# Altium schematic symbol library Detectors.SchLib: 109 symbols (part 1 of 5)
Pins are listed as number, name and electrical type; pins without a type are passive.

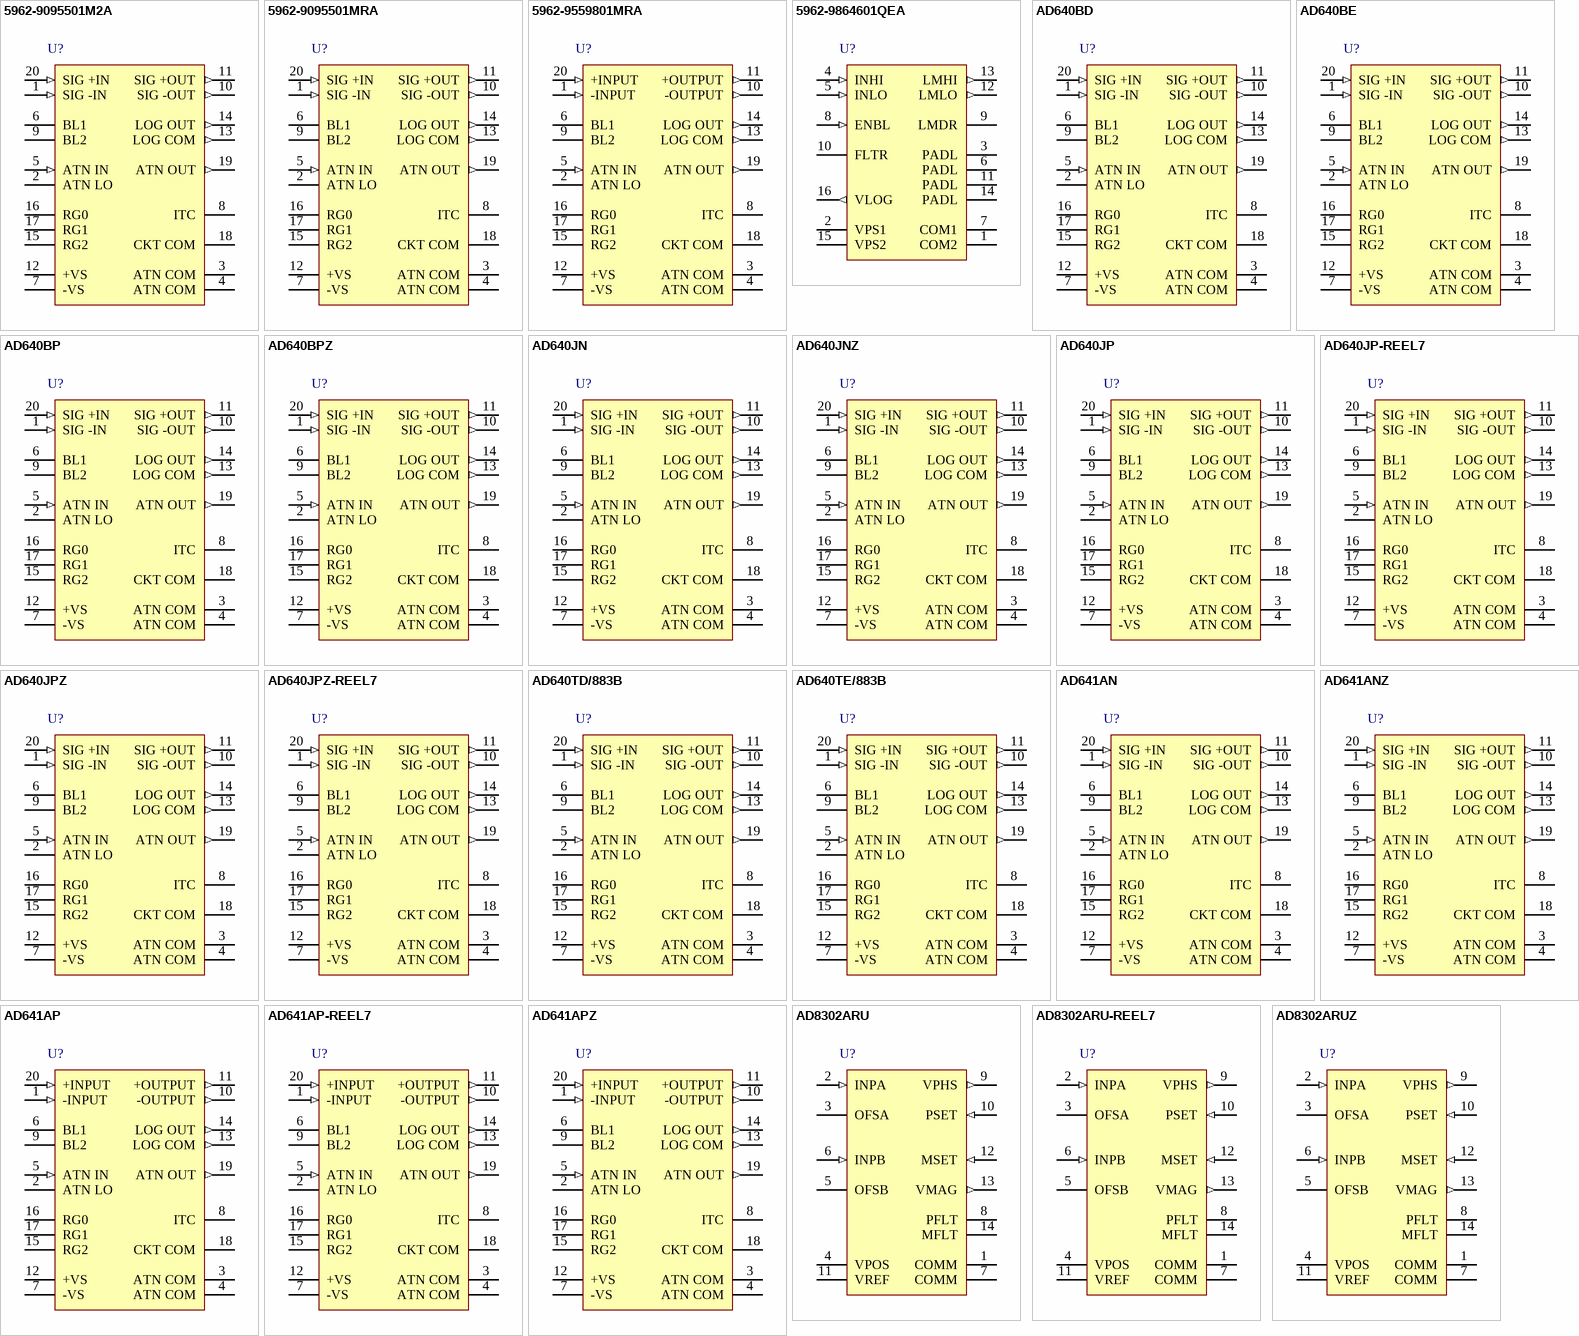
[diagram p0: symbols 5962-9095501M2A to AD8302ARUZ]

## 5962-9095501M2A
designator U?
DC-Coupled Demodulating 120 MHz Logarithmic Amplifier, 10ns Response Time, E-20-1, 54 Tube; Product Description: Military Specified Part Available; Dynamic Range (dB): 50dB; Temp Stability (dB): 1dB; Voltage Supply (V): +/- 4.5 to +/- 7.5; Supply Current: 44mA; DatasheetVersion: REV. C; PackageVersion: 022106-A; PackageReference: E-20-1; PackageDescription: 20-Terminal Ceramic Leadless Chip Carrier [LCC]; Response Time (ns typ): 10ns; ComponentLink1Description: Manufacturer URL; ComponentLink1URL: www.analog.com; ComponentLink2Description: Datasheet; ComponentLink2URL: http://www.analog.com/static/imported-files/data_sheets/AD640.pdf; ComponentLink3Description: Package Specification; ComponentLink3URL: http://www.analog.com/static/imported-files/packages/PKG_PDF/LCC(E)/E_20_1.pdf
footprint ADI-E-20-1_N (Leadless Chip Carrier, 20-Leads, Body 8.9x8.9mm, Pitch 1.27mm, IPC Medium Density)
footprint ADI-E-20-1_L (Leadless Chip Carrier, 20-Leads, Body 8.9x8.9mm, Pitch 1.27mm, IPC High Density)
footprint ADI-E-20-1_M (Leadless Chip Carrier, 20-Leads, Body 8.9x8.9mm, Pitch 1.27mm, IPC Low Density)
pins: 1 SIG -IN (in) "SIGNAL INPUTS", 2 ATN LO "INPUT ATTENUATOR", 3 ATN COM (power) "INPUT ATTENUATOR", 4 ATN COM (power) "INPUT ATTENUATOR", 5 ATN IN (in) "INPUT ATTENUATOR", 6 BL1 "bias lines", 7 -VS (power) "POWER REQUIREMENTS", 8 ITC "internal temperature compensation", 9 BL2 "bias lines", 10 SIG -OUT (out) "SIGNAL OUTPUT", 11 SIG +OUT (out) "SIGNAL OUTPUT", 12 +VS (power) "POWER REQUIREMENTS", 13 LOG COM (out), 14 LOG OUT (out) "LOGARITHMIC OUTPUT", 15 RG2 "APPLICATIONS RESISTORS", 16 RG0 "APPLICATIONS RESISTORS", 17 RG1 "APPLICATIONS RESISTORS", 18 CKT COM, 19 ATN OUT (out) "INPUT ATTENUATOR", 20 SIG +IN (in) "SIGNAL INPUTS"

## 5962-9095501MRA
designator U?
DC-Coupled Demodulating 120 MHz Logarithmic Amplifier, 10ns Response Time, D-20, 19 Tube; Product Description: Military Specified Part Available; Dynamic Range (dB): 50dB; Temp Stability (dB): 1dB; Voltage Supply (V): +/- 4.5 to +/- 7.5; Supply Current: 44mA; DatasheetVersion: REV. C; PackageVersion: Oct-2004; PackageReference: D-20; PackageDescription: 20-Lead Side-Brazed Ceramic Dual In-Line Package [SBDIP]; Response Time (ns typ): 10ns; ComponentLink1Description: Manufacturer URL; ComponentLink1URL: www.analog.com; ComponentLink2Description: Datasheet; ComponentLink2URL: http://www.analog.com/static/imported-files/data_sheets/AD640.pdf; ComponentLink3Description: Package Specification; ComponentLink3URL: http://www.analog.com/static/imported-files/packages/31639175472309D_20.pdf
footprint ADI-D-20 (DIP, 20-Leads, Row Spacing 7.62mm, Pitch 2.54mm, Body 27x7.4mm)
pins: 1 SIG -IN (in) "SIGNAL INPUTS", 2 ATN LO "INPUT ATTENUATOR", 3 ATN COM (power) "INPUT ATTENUATOR", 4 ATN COM (power) "INPUT ATTENUATOR", 5 ATN IN (in) "INPUT ATTENUATOR", 6 BL1 "bias lines", 7 -VS (power) "POWER REQUIREMENTS", 8 ITC "internal temperature compensation", 9 BL2 "bias lines", 10 SIG -OUT (out) "SIGNAL OUTPUT", 11 SIG +OUT (out) "SIGNAL OUTPUT", 12 +VS (power) "POWER REQUIREMENTS", 13 LOG COM (out), 14 LOG OUT (out) "LOGARITHMIC OUTPUT", 15 RG2 "APPLICATIONS RESISTORS", 16 RG0 "APPLICATIONS RESISTORS", 17 RG1 "APPLICATIONS RESISTORS", 18 CKT COM, 19 ATN OUT (out) "INPUT ATTENUATOR", 20 SIG +IN (in) "SIGNAL INPUTS"

## 5962-9559801MRA
designator U?
250 MHz, 44 dB Demodulating Logarithmic Amplifier, 10ns Response Time, Q-20, 18 Tube; Product Description: Military Specified Part Available; Dynamic Range (dB): 44dB; Temp Stability (dB): 1dB; Voltage Supply (V): +/- 4.5 to +/- 7.5; Supply Current: 44mA; DatasheetVersion: Rev. C; PackageVersion: Dec-2004; PackageReference: Q-20; PackageDescription: 20-Lead Ceramic Dual In-Line Package [CERDIP]; Response Time (ns typ): 10ns; ComponentLink1Description: Manufacturer URL; ComponentLink1URL: www.analog.com; ComponentLink2Description: Datasheet; ComponentLink2URL: http://www.analog.com/static/imported-files/data_sheets/AD641.pdf; ComponentLink3Description: Package Specification; ComponentLink3URL: http://www.analog.com/static/imported-files/packages/50516416473314Q_20.pdf
footprint ADI-Q-20 (DIP, 20-Leads, Row Spacing 7.62mm, Pitch 2.54mm, Body 25.9x6.7mm)
pins: 1 -INPUT (in), 2 ATN LO, 3 ATN COM (power), 4 ATN COM (power), 5 ATN IN (in), 6 BL1, 7 -VS (power), 8 ITC, 9 BL2, 10 -OUTPUT (out), 11 +OUTPUT (out), 12 +VS (power), 13 LOG COM (out), 14 LOG OUT (out), 15 RG2, 16 RG0, 17 RG1, 18 CKT COM, 19 ATN OUT (out), 20 +INPUT (in)

## 5962-9864601QEA
designator U?
5 MHz-400 MHz 100 dB High Precision Limiting-Logarithmic Amplifier, 73ns Response Time, D-16, 23 Tube; Product Description: Military Specified Part Available; RF Frequency (MHz): 5 to 400; Dynamic Range (dB): 100dB; Temp Stability (dB): 1dB; Voltage Supply (V): 2.7 to 5.5; Supply Current: 16mA; DatasheetVersion: Rev.A; PackageVersion: Oct-2004; PackageReference: D-16; PackageDescription: 16-Lead Side-Brazed Ceramic Dual In-Line Package [SBDIP]; Response Time (ns typ): 73ns; ComponentLink1Description: Manufacturer URL; ComponentLink1URL: www.analog.com; ComponentLink2Description: Datasheet; ComponentLink2URL: http://www.analog.com/static/imported-files/data_sheets/AD8306.pdf; ComponentLink3Description: Package Specification; ComponentLink3URL: http://www.analog.com/static/imported-files/packages/411773807540737148809448D_16.pdf
footprint ADI-D-16 (DIP, 16-Leads, Row Spacing 7.62mm, Pitch 2.54mm, Body 21.3x6.7mm)
pins: 1 COM2 (power) "Special Common Pin for RSSI Output.", 2 VPS1 (power) "Supply Pin for First Five Amplifier Stages and the Main Biasing System.", 3 PADL (power) "Four Tie-Downs to the Paddle on which the IC Is Mounted; Grounded.", 4 INHI (in) "Signal Input, HI or Plus Polarity.", 5 INLO (in) "Signal Input, LO or Minus Polarity.", 6 PADL (power) "Four Tie-Downs to the Paddle on which the IC Is Mounted; Grounded.", 7 COM1 (power) "Main Common Connection.", 8 ENBL (in) "Chip Enable; Active When HI.", 9 LMDR "Limiter Drive Programming Pin.", 10 FLTR "RSSI Bandwidth-Reduction Pin.", 11 PADL (power) "Four Tie-Downs to the Paddle on which the IC Is Mounted; Grounded.", 12 LMLO (out) "Limiter Output, LO or Minus Polarity.", 13 LMHI (out) "Limiter Output, HI or Plus Polarity.", 14 PADL (power) "Four Tie-Downs to the Paddle on which the IC Is Mounted; Grounded.", 15 VPS2 (power) "Supply Pin for Sixth Gain Stage, Limiter and RSSI Output Stage Load Current.", 16 VLOG (out) "Logarithmic (RSSI) Output."

## AD640BD
designator U?
DC-Coupled Demodulating 120 MHz Logarithmic Amplifier, 10ns Response Time, D-20, 19 Tube; Product Description: Military Specified Part Available; Dynamic Range (dB): 50dB; Temp Stability (dB): 1dB; Voltage Supply (V): +/- 4.5 to +/- 7.5; Supply Current: 44mA; DatasheetVersion: REV. C; PackageVersion: Oct-2004; PackageReference: D-20; PackageDescription: 20-Lead Side-Brazed Ceramic Dual In-Line Package [SBDIP]; Response Time (ns typ): 10ns; ComponentLink1Description: Manufacturer URL; ComponentLink1URL: www.analog.com; ComponentLink2Description: Datasheet; ComponentLink2URL: http://www.analog.com/static/imported-files/data_sheets/AD640.pdf; ComponentLink3Description: Package Specification; ComponentLink3URL: http://www.analog.com/static/imported-files/packages/31639175472309D_20.pdf
footprint ADI-D-20 (DIP, 20-Leads, Row Spacing 7.62mm, Pitch 2.54mm, Body 27x7.4mm)
pins: 1 SIG -IN (in) "SIGNAL INPUTS", 2 ATN LO "INPUT ATTENUATOR", 3 ATN COM (power) "INPUT ATTENUATOR", 4 ATN COM (power) "INPUT ATTENUATOR", 5 ATN IN (in) "INPUT ATTENUATOR", 6 BL1 "bias lines", 7 -VS (power) "POWER REQUIREMENTS", 8 ITC "internal temperature compensation", 9 BL2 "bias lines", 10 SIG -OUT (out) "SIGNAL OUTPUT", 11 SIG +OUT (out) "SIGNAL OUTPUT", 12 +VS (power) "POWER REQUIREMENTS", 13 LOG COM (out), 14 LOG OUT (out) "LOGARITHMIC OUTPUT", 15 RG2 "APPLICATIONS RESISTORS", 16 RG0 "APPLICATIONS RESISTORS", 17 RG1 "APPLICATIONS RESISTORS", 18 CKT COM, 19 ATN OUT (out) "INPUT ATTENUATOR", 20 SIG +IN (in) "SIGNAL INPUTS"

## AD640BE
designator U?
DC-Coupled Demodulating 120 MHz Logarithmic Amplifier, 10ns Response Time, E-20-1, Pb-Free, 54 Tube; Product Description: Military Specified Part Available; Dynamic Range (dB): 50dB; Temp Stability (dB): 1dB; Voltage Supply (V): +/- 4.5 to +/- 7.5; Supply Current: 44mA; DatasheetVersion: REV. C; PackageVersion: 022106-A; PackageReference: E-20-1; PackageDescription: 20-Terminal Ceramic Leadless Chip Carrier [LCC]; Response Time (ns typ): 10ns; ComponentLink1Description: Manufacturer URL; ComponentLink1URL: www.analog.com; ComponentLink2Description: Datasheet; ComponentLink2URL: http://www.analog.com/static/imported-files/data_sheets/AD640.pdf; ComponentLink3Description: Package Specification; ComponentLink3URL: http://www.analog.com/static/imported-files/packages/PKG_PDF/LCC(E)/E_20_1.pdf
footprint ADI-E-20-1_N (Leadless Chip Carrier, 20-Leads, Body 8.9x8.9mm, Pitch 1.27mm, IPC Medium Density)
footprint ADI-E-20-1_L (Leadless Chip Carrier, 20-Leads, Body 8.9x8.9mm, Pitch 1.27mm, IPC High Density)
footprint ADI-E-20-1_M (Leadless Chip Carrier, 20-Leads, Body 8.9x8.9mm, Pitch 1.27mm, IPC Low Density)
pins: 1 SIG -IN (in) "SIGNAL INPUTS", 2 ATN LO "INPUT ATTENUATOR", 3 ATN COM (power) "INPUT ATTENUATOR", 4 ATN COM (power) "INPUT ATTENUATOR", 5 ATN IN (in) "INPUT ATTENUATOR", 6 BL1 "bias lines", 7 -VS (power) "POWER REQUIREMENTS", 8 ITC "internal temperature compensation", 9 BL2 "bias lines", 10 SIG -OUT (out) "SIGNAL OUTPUT", 11 SIG +OUT (out) "SIGNAL OUTPUT", 12 +VS (power) "POWER REQUIREMENTS", 13 LOG COM (out), 14 LOG OUT (out) "LOGARITHMIC OUTPUT", 15 RG2 "APPLICATIONS RESISTORS", 16 RG0 "APPLICATIONS RESISTORS", 17 RG1 "APPLICATIONS RESISTORS", 18 CKT COM, 19 ATN OUT (out) "INPUT ATTENUATOR", 20 SIG +IN (in) "SIGNAL INPUTS"

## AD640BP
designator U?
DC-Coupled Demodulating 120 MHz Logarithmic Amplifier, 10ns Response Time, P-20A, 49 Tube; Product Description: Military Specified Part Available; Dynamic Range (dB): 50dB; Temp Stability (dB): 1dB; Voltage Supply (V): +/- 4.5 to +/- 7.5; Supply Current: 44mA; DatasheetVersion: REV. C; PackageVersion: Nov-2002; PackageReference: P-20A; PackageDescription: 20-Lead Plastic Leaded Chip Carrier [PLCC]; Response Time (ns typ): 10ns; Code_JEDEC: MO-047AA; ComponentLink1Description: Manufacturer URL; ComponentLink1URL: www.analog.com; ComponentLink2Description: Datasheet; ComponentLink2URL: http://www.analog.com/static/imported-files/data_sheets/AD640.pdf; ComponentLink3Description: Package Specification; ComponentLink3URL: http://www.analog.com/static/imported-files/packages/3121431516544404277643669223804694P20A.pdf
footprint ADI-P-20A_N (Leaded Chip Carrier, 20-Leads, Body 9x9mm, Pitch 1.27mm, IPC Medium Density)
footprint ADI-P-20A_L (Leaded Chip Carrier, 20-Leads, Body 9x9mm, Pitch 1.27mm, IPC High Density)
footprint ADI-P-20A_M (Leaded Chip Carrier, 20-Leads, Body 9x9mm, Pitch 1.27mm, IPC Low Density)
pins: 1 SIG -IN (in) "SIGNAL INPUTS", 2 ATN LO "INPUT ATTENUATOR", 3 ATN COM (power) "INPUT ATTENUATOR", 4 ATN COM (power) "INPUT ATTENUATOR", 5 ATN IN (in) "INPUT ATTENUATOR", 6 BL1 "bias lines", 7 -VS (power) "POWER REQUIREMENTS", 8 ITC "internal temperature compensation", 9 BL2 "bias lines", 10 SIG -OUT (out) "SIGNAL OUTPUT", 11 SIG +OUT (out) "SIGNAL OUTPUT", 12 +VS (power) "POWER REQUIREMENTS", 13 LOG COM (out), 14 LOG OUT (out) "LOGARITHMIC OUTPUT", 15 RG2 "APPLICATIONS RESISTORS", 16 RG0 "APPLICATIONS RESISTORS", 17 RG1 "APPLICATIONS RESISTORS", 18 CKT COM, 19 ATN OUT (out) "INPUT ATTENUATOR", 20 SIG +IN (in) "SIGNAL INPUTS"

## AD640BPZ
designator U?
DC-Coupled Demodulating 120 MHz Logarithmic Amplifier, 10ns Response Time, P-20A, Pb-Free, 49 Tube; Product Description: Military Specified Part Available; Dynamic Range (dB): 50dB; Temp Stability (dB): 1dB; Voltage Supply (V): +/- 4.5 to +/- 7.5; Supply Current: 44mA; DatasheetVersion: REV. C; PackageVersion: Nov-2002; PackageReference: P-20A; PackageDescription: 20-Lead Plastic Leaded Chip Carrier [PLCC]; Response Time (ns typ): 10ns; Code_JEDEC: MO-047AA; ComponentLink1Description: Manufacturer URL; ComponentLink1URL: www.analog.com; ComponentLink2Description: Datasheet; ComponentLink2URL: http://www.analog.com/static/imported-files/data_sheets/AD640.pdf; ComponentLink3Description: Package Specification; ComponentLink3URL: http://www.analog.com/static/imported-files/packages/3121431516544404277643669223804694P20A.pdf
footprint ADI-P-20A_N (Leaded Chip Carrier, 20-Leads, Body 9x9mm, Pitch 1.27mm, IPC Medium Density)
footprint ADI-P-20A_L (Leaded Chip Carrier, 20-Leads, Body 9x9mm, Pitch 1.27mm, IPC High Density)
footprint ADI-P-20A_M (Leaded Chip Carrier, 20-Leads, Body 9x9mm, Pitch 1.27mm, IPC Low Density)
pins: 1 SIG -IN (in) "SIGNAL INPUTS", 2 ATN LO "INPUT ATTENUATOR", 3 ATN COM (power) "INPUT ATTENUATOR", 4 ATN COM (power) "INPUT ATTENUATOR", 5 ATN IN (in) "INPUT ATTENUATOR", 6 BL1 "bias lines", 7 -VS (power) "POWER REQUIREMENTS", 8 ITC "internal temperature compensation", 9 BL2 "bias lines", 10 SIG -OUT (out) "SIGNAL OUTPUT", 11 SIG +OUT (out) "SIGNAL OUTPUT", 12 +VS (power) "POWER REQUIREMENTS", 13 LOG COM (out), 14 LOG OUT (out) "LOGARITHMIC OUTPUT", 15 RG2 "APPLICATIONS RESISTORS", 16 RG0 "APPLICATIONS RESISTORS", 17 RG1 "APPLICATIONS RESISTORS", 18 CKT COM, 19 ATN OUT (out) "INPUT ATTENUATOR", 20 SIG +IN (in) "SIGNAL INPUTS"

## AD640JN
designator U?
DC-Coupled Demodulating 120 MHz Logarithmic Amplifier, 10ns Response Time, N-20, 18 Tube; Product Description: Military Specified Part Available; Dynamic Range (dB): 50dB; Temp Stability (dB): 1dB; Voltage Supply (V): +/- 4.5 to +/- 7.5; Supply Current: 44mA; DatasheetVersion: REV. C; PackageVersion: 070706-A; PackageReference: N-20; PackageDescription: 20-Lead Plastic Dual In-Line Package [PDIP]; Response Time (ns typ): 10ns; Code_JEDEC: MS-001; ComponentLink1Description: Manufacturer URL; ComponentLink1URL: www.analog.com; ComponentLink2Description: Datasheet; ComponentLink2URL: http://www.analog.com/static/imported-files/data_sheets/AD640.pdf; ComponentLink3Description: Package Specification; ComponentLink3URL: http://www.analog.com/static/imported-files/packages/50601349676519N_20.pdf
footprint ADI-N-20 (DIP, 20-Leads, Row Spacing 7.62mm, Pitch 2.54mm, Body 25.9x6.6mm)
pins: 1 SIG -IN (in) "SIGNAL INPUTS", 2 ATN LO  "INPUT ATTENUATOR", 3 ATN COM (power) "INPUT ATTENUATOR", 4 ATN COM (power) "INPUT ATTENUATOR", 5 ATN IN (in) "INPUT ATTENUATOR", 6 BL1 "internal biaslines a volt or two above the 朧S node", 7 -VS (power) "POWER REQUIREMENTS", 8 ITC "internal temperature compensation", 9 BL2 "internal biaslines a volt or two above the 朧S node", 10 SIG -OUT (out) "SIGNAL OUTPUT", 11 SIG +OUT (out) "SIGNAL OUTPUT", 12 +VS (power) "POWER REQUIREMENTS", 13 LOG COM (out) "the complement of LOG OUT", 14 LOG OUT (out) "LOGARITHMIC OUTPUT", 15 RG2 "APPLICATIONS RESISTORS", 16 RG0 "APPLICATIONS RESISTORS", 17 RG1 "APPLICATIONS RESISTORS", 18 CKT COM, 19 ATN OUT (out) "INPUT ATTENUATOR", 20 SIG +IN (in) "SIGNAL INPUTS"

## AD640JNZ
designator U?
DC-Coupled Demodulating 120 MHz Logarithmic Amplifier, 10ns Response Time, N-20, Pb-Free, 18 Tube; Product Description: Military Specified Part Available; Dynamic Range (dB): 50dB; Temp Stability (dB): 1dB; Voltage Supply (V): +/- 4.5 to +/- 7.5; Supply Current: 44mA; DatasheetVersion: REV. C; PackageVersion: 070706-A; PackageReference: N-20; PackageDescription: 20-Lead Plastic Dual In-Line Package [PDIP]; Response Time (ns typ): 10ns; Code_JEDEC: MS-001; ComponentLink1Description: Manufacturer URL; ComponentLink1URL: www.analog.com; ComponentLink2Description: Datasheet; ComponentLink2URL: http://www.analog.com/static/imported-files/data_sheets/AD640.pdf; ComponentLink3Description: Package Specification; ComponentLink3URL: http://www.analog.com/static/imported-files/packages/50601349676519N_20.pdf
footprint ADI-N-20 (DIP, 20-Leads, Row Spacing 7.62mm, Pitch 2.54mm, Body 25.9x6.6mm)
pins: 1 SIG -IN (in) "SIGNAL INPUTS", 2 ATN LO  "INPUT ATTENUATOR", 3 ATN COM (power) "INPUT ATTENUATOR", 4 ATN COM (power) "INPUT ATTENUATOR", 5 ATN IN (in) "INPUT ATTENUATOR", 6 BL1 "internal biaslines a volt or two above the 朧S node", 7 -VS (power) "POWER REQUIREMENTS", 8 ITC "internal temperature compensation", 9 BL2 "internal biaslines a volt or two above the 朧S node", 10 SIG -OUT (out) "SIGNAL OUTPUT", 11 SIG +OUT (out) "SIGNAL OUTPUT", 12 +VS (power) "POWER REQUIREMENTS", 13 LOG COM (out) "the complement of LOG OUT", 14 LOG OUT (out) "LOGARITHMIC OUTPUT", 15 RG2 "APPLICATIONS RESISTORS", 16 RG0 "APPLICATIONS RESISTORS", 17 RG1 "APPLICATIONS RESISTORS", 18 CKT COM, 19 ATN OUT (out) "INPUT ATTENUATOR", 20 SIG +IN (in) "SIGNAL INPUTS"

## AD640JP
designator U?
DC-Coupled Demodulating 120 MHz Logarithmic Amplifier, 10ns Response Time, P-20A, 49 Tube; Product Description: Military Specified Part Available; Dynamic Range (dB): 50dB; Temp Stability (dB): 1dB; Voltage Supply (V): +/- 4.5 to +/- 7.5; Supply Current: 44mA; DatasheetVersion: REV. C; PackageVersion: Nov-2002; PackageReference: P-20A; PackageDescription: 20-Lead Plastic Leaded Chip Carrier [PLCC]; Response Time (ns typ): 10ns; Code_JEDEC: MO-047AA; ComponentLink1Description: Manufacturer URL; ComponentLink1URL: www.analog.com; ComponentLink2Description: Datasheet; ComponentLink2URL: http://www.analog.com/static/imported-files/data_sheets/AD640.pdf; ComponentLink3Description: Package Specification; ComponentLink3URL: http://www.analog.com/static/imported-files/packages/3121431516544404277643669223804694P20A.pdf
footprint ADI-P-20A_N (Leaded Chip Carrier, 20-Leads, Body 9x9mm, Pitch 1.27mm, IPC Medium Density)
footprint ADI-P-20A_L (Leaded Chip Carrier, 20-Leads, Body 9x9mm, Pitch 1.27mm, IPC High Density)
footprint ADI-P-20A_M (Leaded Chip Carrier, 20-Leads, Body 9x9mm, Pitch 1.27mm, IPC Low Density)
pins: 1 SIG -IN (in) "SIGNAL INPUTS", 2 ATN LO "INPUT ATTENUATOR", 3 ATN COM (power) "INPUT ATTENUATOR", 4 ATN COM (power) "INPUT ATTENUATOR", 5 ATN IN (in) "INPUT ATTENUATOR", 6 BL1 "bias lines", 7 -VS (power) "POWER REQUIREMENTS", 8 ITC "internal temperature compensation", 9 BL2 "bias lines", 10 SIG -OUT (out) "SIGNAL OUTPUT", 11 SIG +OUT (out) "SIGNAL OUTPUT", 12 +VS (power) "POWER REQUIREMENTS", 13 LOG COM (out), 14 LOG OUT (out) "LOGARITHMIC OUTPUT", 15 RG2 "APPLICATIONS RESISTORS", 16 RG0 "APPLICATIONS RESISTORS", 17 RG1 "APPLICATIONS RESISTORS", 18 CKT COM, 19 ATN OUT (out) "INPUT ATTENUATOR", 20 SIG +IN (in) "SIGNAL INPUTS"

## AD640JP-REEL7
designator U?
DC-Coupled Demodulating 120 MHz Logarithmic Amplifier, 10ns Response Time, P-20A, 250 Reel; Product Description: Military Specified Part Available; Dynamic Range (dB): 50dB; Temp Stability (dB): 1dB; Voltage Supply (V): +/- 4.5 to +/- 7.5; Supply Current: 44mA; DatasheetVersion: REV. C; PackageVersion: Nov-2002; PackageReference: P-20A; PackageDescription: 20-Lead Plastic Leaded Chip Carrier [PLCC]; Response Time (ns typ): 10ns; Code_JEDEC: MO-047AA; ComponentLink1Description: Manufacturer URL; ComponentLink1URL: www.analog.com; ComponentLink2Description: Datasheet; ComponentLink2URL: http://www.analog.com/static/imported-files/data_sheets/AD640.pdf; ComponentLink3Description: Package Specification; ComponentLink3URL: http://www.analog.com/static/imported-files/packages/3121431516544404277643669223804694P20A.pdf
footprint ADI-P-20A_N (Leaded Chip Carrier, 20-Leads, Body 9x9mm, Pitch 1.27mm, IPC Medium Density)
footprint ADI-P-20A_L (Leaded Chip Carrier, 20-Leads, Body 9x9mm, Pitch 1.27mm, IPC High Density)
footprint ADI-P-20A_M (Leaded Chip Carrier, 20-Leads, Body 9x9mm, Pitch 1.27mm, IPC Low Density)
pins: 1 SIG -IN (in) "SIGNAL INPUTS", 2 ATN LO "INPUT ATTENUATOR", 3 ATN COM (power) "INPUT ATTENUATOR", 4 ATN COM (power) "INPUT ATTENUATOR", 5 ATN IN (in) "INPUT ATTENUATOR", 6 BL1 "bias lines", 7 -VS (power) "POWER REQUIREMENTS", 8 ITC "internal temperature compensation", 9 BL2 "bias lines", 10 SIG -OUT (out) "SIGNAL OUTPUT", 11 SIG +OUT (out) "SIGNAL OUTPUT", 12 +VS (power) "POWER REQUIREMENTS", 13 LOG COM (out), 14 LOG OUT (out) "LOGARITHMIC OUTPUT", 15 RG2 "APPLICATIONS RESISTORS", 16 RG0 "APPLICATIONS RESISTORS", 17 RG1 "APPLICATIONS RESISTORS", 18 CKT COM, 19 ATN OUT (out) "INPUT ATTENUATOR", 20 SIG +IN (in) "SIGNAL INPUTS"

## AD640JPZ
designator U?
DC-Coupled Demodulating 120 MHz Logarithmic Amplifier, 10ns Response Time, P-20A, Pb-Free, 49 Tube; Product Description: Military Specified Part Available; Dynamic Range (dB): 50dB; Temp Stability (dB): 1dB; Voltage Supply (V): +/- 4.5 to +/- 7.5; Supply Current: 44mA; DatasheetVersion: REV. C; PackageVersion: Nov-2002; PackageReference: P-20A; PackageDescription: 20-Lead Plastic Leaded Chip Carrier [PLCC]; Response Time (ns typ): 10ns; Code_JEDEC: MO-047AA; ComponentLink1Description: Manufacturer URL; ComponentLink1URL: www.analog.com; ComponentLink2Description: Datasheet; ComponentLink2URL: http://www.analog.com/static/imported-files/data_sheets/AD640.pdf; ComponentLink3Description: Package Specification; ComponentLink3URL: http://www.analog.com/static/imported-files/packages/3121431516544404277643669223804694P20A.pdf
footprint ADI-P-20A_N (Leaded Chip Carrier, 20-Leads, Body 9x9mm, Pitch 1.27mm, IPC Medium Density)
footprint ADI-P-20A_L (Leaded Chip Carrier, 20-Leads, Body 9x9mm, Pitch 1.27mm, IPC High Density)
footprint ADI-P-20A_M (Leaded Chip Carrier, 20-Leads, Body 9x9mm, Pitch 1.27mm, IPC Low Density)
pins: 1 SIG -IN (in) "SIGNAL INPUTS", 2 ATN LO "INPUT ATTENUATOR", 3 ATN COM (power) "INPUT ATTENUATOR", 4 ATN COM (power) "INPUT ATTENUATOR", 5 ATN IN (in) "INPUT ATTENUATOR", 6 BL1 "bias lines", 7 -VS (power) "POWER REQUIREMENTS", 8 ITC "internal temperature compensation", 9 BL2 "bias lines", 10 SIG -OUT (out) "SIGNAL OUTPUT", 11 SIG +OUT (out) "SIGNAL OUTPUT", 12 +VS (power) "POWER REQUIREMENTS", 13 LOG COM (out), 14 LOG OUT (out) "LOGARITHMIC OUTPUT", 15 RG2 "APPLICATIONS RESISTORS", 16 RG0 "APPLICATIONS RESISTORS", 17 RG1 "APPLICATIONS RESISTORS", 18 CKT COM, 19 ATN OUT (out) "INPUT ATTENUATOR", 20 SIG +IN (in) "SIGNAL INPUTS"

## AD640JPZ-REEL7
designator U?
DC-Coupled Demodulating 120 MHz Logarithmic Amplifier, 10ns Response Time, P-20A, Pb-Free, 250 Reel; Product Description: Military Specified Part Available; Dynamic Range (dB): 50dB; Temp Stability (dB): 1dB; Voltage Supply (V): +/- 4.5 to +/- 7.5; Supply Current: 44mA; DatasheetVersion: REV. C; PackageVersion: Nov-2002; PackageReference: P-20A; PackageDescription: 20-Lead Plastic Leaded Chip Carrier [PLCC]; Response Time (ns typ): 10ns; Code_JEDEC: MO-047AA; ComponentLink1Description: Manufacturer URL; ComponentLink1URL: www.analog.com; ComponentLink2Description: Datasheet; ComponentLink2URL: http://www.analog.com/static/imported-files/data_sheets/AD640.pdf; ComponentLink3Description: Package Specification; ComponentLink3URL: http://www.analog.com/static/imported-files/packages/3121431516544404277643669223804694P20A.pdf
footprint ADI-P-20A_N (Leaded Chip Carrier, 20-Leads, Body 9x9mm, Pitch 1.27mm, IPC Medium Density)
footprint ADI-P-20A_L (Leaded Chip Carrier, 20-Leads, Body 9x9mm, Pitch 1.27mm, IPC High Density)
footprint ADI-P-20A_M (Leaded Chip Carrier, 20-Leads, Body 9x9mm, Pitch 1.27mm, IPC Low Density)
pins: 1 SIG -IN (in) "SIGNAL INPUTS", 2 ATN LO "INPUT ATTENUATOR", 3 ATN COM (power) "INPUT ATTENUATOR", 4 ATN COM (power) "INPUT ATTENUATOR", 5 ATN IN (in) "INPUT ATTENUATOR", 6 BL1 "bias lines", 7 -VS (power) "POWER REQUIREMENTS", 8 ITC "internal temperature compensation", 9 BL2 "bias lines", 10 SIG -OUT (out) "SIGNAL OUTPUT", 11 SIG +OUT (out) "SIGNAL OUTPUT", 12 +VS (power) "POWER REQUIREMENTS", 13 LOG COM (out), 14 LOG OUT (out) "LOGARITHMIC OUTPUT", 15 RG2 "APPLICATIONS RESISTORS", 16 RG0 "APPLICATIONS RESISTORS", 17 RG1 "APPLICATIONS RESISTORS", 18 CKT COM, 19 ATN OUT (out) "INPUT ATTENUATOR", 20 SIG +IN (in) "SIGNAL INPUTS"

## AD640TD/883B
designator U?
DC-Coupled Demodulating 120 MHz Logarithmic Amplifier, 10ns Response Time, D-20, 25 Tray; Product Description: Military Specified Part Available; Dynamic Range (dB): 50dB; Temp Stability (dB): 1dB; Voltage Supply (V): +/- 4.5 to +/- 7.5; Supply Current: 44mA; DatasheetVersion: REV. C; PackageVersion: Oct-2004; PackageReference: D-20; PackageDescription: 20-Lead Side-Brazed Ceramic Dual In-Line Package [SBDIP]; Response Time (ns typ): 10ns; ComponentLink1Description: Manufacturer URL; ComponentLink1URL: www.analog.com; ComponentLink2Description: Datasheet; ComponentLink2URL: http://www.analog.com/static/imported-files/data_sheets/AD640.pdf; ComponentLink3Description: Package Specification; ComponentLink3URL: http://www.analog.com/static/imported-files/packages/31639175472309D_20.pdf
footprint ADI-D-20 (DIP, 20-Leads, Row Spacing 7.62mm, Pitch 2.54mm, Body 27x7.4mm)
pins: 1 SIG -IN (in) "SIGNAL INPUTS", 2 ATN LO "INPUT ATTENUATOR", 3 ATN COM (power) "INPUT ATTENUATOR", 4 ATN COM (power) "INPUT ATTENUATOR", 5 ATN IN (in) "INPUT ATTENUATOR", 6 BL1 "bias lines", 7 -VS (power) "POWER REQUIREMENTS", 8 ITC "internal temperature compensation", 9 BL2 "bias lines", 10 SIG -OUT (out) "SIGNAL OUTPUT", 11 SIG +OUT (out) "SIGNAL OUTPUT", 12 +VS (power) "POWER REQUIREMENTS", 13 LOG COM (out), 14 LOG OUT (out) "LOGARITHMIC OUTPUT", 15 RG2 "APPLICATIONS RESISTORS", 16 RG0 "APPLICATIONS RESISTORS", 17 RG1 "APPLICATIONS RESISTORS", 18 CKT COM, 19 ATN OUT (out) "INPUT ATTENUATOR", 20 SIG +IN (in) "SIGNAL INPUTS"

## AD640TE/883B
designator U?
DC-Coupled Demodulating 120 MHz Logarithmic Amplifier, 10ns Response Time, E-20-1, 19 Tube; Product Description: Military Specified Part Available; Dynamic Range (dB): 50dB; Temp Stability (dB): 1dB; Voltage Supply (V): +/- 4.5 to +/- 7.5; Supply Current: 44mA; DatasheetVersion: REV. C; PackageVersion: 022106-A; PackageReference: E-20-1; PackageDescription: 20-Terminal Ceramic Leadless Chip Carrier [LCC]; Response Time (ns typ): 10ns; ComponentLink1Description: Manufacturer URL; ComponentLink1URL: www.analog.com; ComponentLink2Description: Datasheet; ComponentLink2URL: http://www.analog.com/static/imported-files/data_sheets/AD640.pdf; ComponentLink3Description: Package Specification; ComponentLink3URL: http://www.analog.com/static/imported-files/packages/PKG_PDF/LCC(E)/E_20_1.pdf
footprint ADI-E-20-1_N (Leadless Chip Carrier, 20-Leads, Body 8.9x8.9mm, Pitch 1.27mm, IPC Medium Density)
footprint ADI-E-20-1_L (Leadless Chip Carrier, 20-Leads, Body 8.9x8.9mm, Pitch 1.27mm, IPC High Density)
footprint ADI-E-20-1_M (Leadless Chip Carrier, 20-Leads, Body 8.9x8.9mm, Pitch 1.27mm, IPC Low Density)
pins: 1 SIG -IN (in) "SIGNAL INPUTS", 2 ATN LO "INPUT ATTENUATOR", 3 ATN COM (power) "INPUT ATTENUATOR", 4 ATN COM (power) "INPUT ATTENUATOR", 5 ATN IN (in) "INPUT ATTENUATOR", 6 BL1 "bias lines", 7 -VS (power) "POWER REQUIREMENTS", 8 ITC "internal temperature compensation", 9 BL2 "bias lines", 10 SIG -OUT (out) "SIGNAL OUTPUT", 11 SIG +OUT (out) "SIGNAL OUTPUT", 12 +VS (power) "POWER REQUIREMENTS", 13 LOG COM (out), 14 LOG OUT (out) "LOGARITHMIC OUTPUT", 15 RG2 "APPLICATIONS RESISTORS", 16 RG0 "APPLICATIONS RESISTORS", 17 RG1 "APPLICATIONS RESISTORS", 18 CKT COM, 19 ATN OUT (out) "INPUT ATTENUATOR", 20 SIG +IN (in) "SIGNAL INPUTS"

## AD641AN
designator U?
250 MHz, 44 dB Demodulating Logarithmic Amplifier, 10ns Response Time, N-20, 18 Tube; Product Description: Military Specified Part Available; Dynamic Range (dB): 44dB; Temp Stability (dB): 1dB; Voltage Supply (V): +/- 4.5 to +/- 7.5; Supply Current: 44mA; DatasheetVersion: Rev. C; PackageVersion: 070706-A; PackageReference: N-20; PackageDescription: 20-Lead Plastic Dual In-Line Package [PDIP]; Response Time (ns typ): 10ns; Code_JEDEC: MS-001; ComponentLink1Description: Manufacturer URL; ComponentLink1URL: www.analog.com; ComponentLink2Description: Datasheet; ComponentLink2URL: http://www.analog.com/static/imported-files/data_sheets/AD641.pdf; ComponentLink3Description: Package Specification; ComponentLink3URL: http://www.analog.com/static/imported-files/packages/50601349676519N_20.pdf
footprint ADI-N-20 (DIP, 20-Leads, Row Spacing 7.62mm, Pitch 2.54mm, Body 25.9x6.6mm)
pins: 1 SIG -IN (in) "SIGNAL INPUTS", 2 ATN LO "INPUT ATTENUATOR", 3 ATN COM (power) "INPUT ATTENUATOR", 4 ATN COM (power) "INPUT ATTENUATOR", 5 ATN IN (in) "INPUT ATTENUATOR", 6 BL1 "bias lines", 7 -VS (power) "POWER REQUIREMENTS", 8 ITC "internal temperature compensation", 9 BL2 "bias lines", 10 SIG -OUT (out) "SIGNAL OUTPUT", 11 SIG +OUT (out) "SIGNAL OUTPUT", 12 +VS (power) "POWER REQUIREMENTS", 13 LOG COM (out), 14 LOG OUT (out) "LOGARITHMIC OUTPUT", 15 RG2 "APPLICATIONS RESISTORS", 16 RG0 "APPLICATIONS RESISTORS", 17 RG1 "APPLICATIONS RESISTORS", 18 CKT COM, 19 ATN OUT (out) "INPUT ATTENUATOR", 20 SIG +IN (in) "SIGNAL INPUTS"

## AD641ANZ
designator U?
250 MHz, 44 dB Demodulating Logarithmic Amplifier, 10ns Response Time, N-20, Pb-Free, 18 Tube; Product Description: Military Specified Part Available; Dynamic Range (dB): 44dB; Temp Stability (dB): 1dB; Voltage Supply (V): +/- 4.5 to +/- 7.5; Supply Current: 44mA; DatasheetVersion: Rev. C; PackageVersion: 070706-A; PackageReference: N-20; PackageDescription: 20-Lead Plastic Dual In-Line Package [PDIP]; Response Time (ns typ): 10ns; Code_JEDEC: MS-001; ComponentLink1Description: Manufacturer URL; ComponentLink1URL: www.analog.com; ComponentLink2Description: Datasheet; ComponentLink2URL: http://www.analog.com/static/imported-files/data_sheets/AD641.pdf; ComponentLink3Description: Package Specification; ComponentLink3URL: http://www.analog.com/static/imported-files/packages/50601349676519N_20.pdf
footprint ADI-N-20 (DIP, 20-Leads, Row Spacing 7.62mm, Pitch 2.54mm, Body 25.9x6.6mm)
pins: 1 SIG -IN (in) "SIGNAL INPUTS", 2 ATN LO "INPUT ATTENUATOR", 3 ATN COM (power) "INPUT ATTENUATOR", 4 ATN COM (power) "INPUT ATTENUATOR", 5 ATN IN (in) "INPUT ATTENUATOR", 6 BL1 "bias lines", 7 -VS (power) "POWER REQUIREMENTS", 8 ITC "internal temperature compensation", 9 BL2 "bias lines", 10 SIG -OUT (out) "SIGNAL OUTPUT", 11 SIG +OUT (out) "SIGNAL OUTPUT", 12 +VS (power) "POWER REQUIREMENTS", 13 LOG COM (out), 14 LOG OUT (out) "LOGARITHMIC OUTPUT", 15 RG2 "APPLICATIONS RESISTORS", 16 RG0 "APPLICATIONS RESISTORS", 17 RG1 "APPLICATIONS RESISTORS", 18 CKT COM, 19 ATN OUT (out) "INPUT ATTENUATOR", 20 SIG +IN (in) "SIGNAL INPUTS"

## AD641AP
designator U?
250 MHz, 44 dB Demodulating Logarithmic Amplifier, 10ns Response Time, P-20A, 49 Tube; Product Description: Military Specified Part Available; Dynamic Range (dB): 44dB; Temp Stability (dB): 1dB; Voltage Supply (V): +/- 4.5 to +/- 7.5; Supply Current: 44mA; DatasheetVersion: Rev. C; PackageVersion: Nov-2002; PackageReference: P-20A; PackageDescription: 20-Lead Plastic Leaded Chip Carrier [PLCC]; Response Time (ns typ): 10ns; Code_JEDEC: MO-047AA; ComponentLink1Description: Manufacturer URL; ComponentLink1URL: www.analog.com; ComponentLink2Description: Datasheet; ComponentLink2URL: http://www.analog.com/static/imported-files/data_sheets/AD641.pdf; ComponentLink3Description: Package Specification; ComponentLink3URL: http://www.analog.com/static/imported-files/packages/3121431516544404277643669223804694P20A.pdf
footprint ADI-P-20A_N (Leaded Chip Carrier, 20-Leads, Body 9x9mm, Pitch 1.27mm, IPC Medium Density)
footprint ADI-P-20A_L (Leaded Chip Carrier, 20-Leads, Body 9x9mm, Pitch 1.27mm, IPC High Density)
footprint ADI-P-20A_M (Leaded Chip Carrier, 20-Leads, Body 9x9mm, Pitch 1.27mm, IPC Low Density)
pins: 1 -INPUT (in), 2 ATN LO, 3 ATN COM (power), 4 ATN COM (power), 5 ATN IN (in), 6 BL1, 7 -VS (power), 8 ITC, 9 BL2, 10 -OUTPUT (out), 11 +OUTPUT (out), 12 +VS (power), 13 LOG COM (out), 14 LOG OUT (out), 15 RG2, 16 RG0, 17 RG1, 18 CKT COM, 19 ATN OUT (out), 20 +INPUT (in)

## AD641AP-REEL7
designator U?
250 MHz, 44 dB Demodulating Logarithmic Amplifier, 10ns Response Time, P-20A, 250 	Reel; Product Description: Military Specified Part Available; Dynamic Range (dB): 44dB; Temp Stability (dB): 1dB; Voltage Supply (V): +/- 4.5 to +/- 7.5; Supply Current: 44mA; DatasheetVersion: Rev. C; PackageVersion: Nov-2002; PackageReference: P-20A; PackageDescription: 20-Lead Plastic Leaded Chip Carrier [PLCC]; Response Time (ns typ): 10ns; Code_JEDEC: MO-047AA; ComponentLink1Description: Manufacturer URL; ComponentLink1URL: www.analog.com; ComponentLink2Description: Datasheet; ComponentLink2URL: http://www.analog.com/static/imported-files/data_sheets/AD641.pdf; ComponentLink3Description: Package Specification; ComponentLink3URL: http://www.analog.com/static/imported-files/packages/3121431516544404277643669223804694P20A.pdf
footprint ADI-P-20A_N (Leaded Chip Carrier, 20-Leads, Body 9x9mm, Pitch 1.27mm, IPC Medium Density)
footprint ADI-P-20A_L (Leaded Chip Carrier, 20-Leads, Body 9x9mm, Pitch 1.27mm, IPC High Density)
footprint ADI-P-20A_M (Leaded Chip Carrier, 20-Leads, Body 9x9mm, Pitch 1.27mm, IPC Low Density)
pins: 1 -INPUT (in), 2 ATN LO, 3 ATN COM (power), 4 ATN COM (power), 5 ATN IN (in), 6 BL1, 7 -VS (power), 8 ITC, 9 BL2, 10 -OUTPUT (out), 11 +OUTPUT (out), 12 +VS (power), 13 LOG COM (out), 14 LOG OUT (out), 15 RG2, 16 RG0, 17 RG1, 18 CKT COM, 19 ATN OUT (out), 20 +INPUT (in)

## AD641APZ
designator U?
250 MHz, 44 dB Demodulating Logarithmic Amplifier, 10ns Response Time, P-20A, Pb-Free, 49 Tube; Product Description: Military Specified Part Available; Dynamic Range (dB): 44dB; Temp Stability (dB): 1dB; Voltage Supply (V): +/- 4.5 to +/- 7.5; Supply Current: 44mA; DatasheetVersion: Rev. C; PackageVersion: Nov-2002; PackageReference: P-20A; PackageDescription: 20-Lead Plastic Leaded Chip Carrier [PLCC]; Response Time (ns typ): 10ns; Code_JEDEC: MO-047AA; ComponentLink1Description: Manufacturer URL; ComponentLink1URL: www.analog.com; ComponentLink2Description: Datasheet; ComponentLink2URL: http://www.analog.com/static/imported-files/data_sheets/AD641.pdf; ComponentLink3Description: Package Specification; ComponentLink3URL: http://www.analog.com/static/imported-files/packages/3121431516544404277643669223804694P20A.pdf
footprint ADI-P-20A_N (Leaded Chip Carrier, 20-Leads, Body 9x9mm, Pitch 1.27mm, IPC Medium Density)
footprint ADI-P-20A_L (Leaded Chip Carrier, 20-Leads, Body 9x9mm, Pitch 1.27mm, IPC High Density)
footprint ADI-P-20A_M (Leaded Chip Carrier, 20-Leads, Body 9x9mm, Pitch 1.27mm, IPC Low Density)
pins: 1 -INPUT (in), 2 ATN LO, 3 ATN COM (power), 4 ATN COM (power), 5 ATN IN (in), 6 BL1, 7 -VS (power), 8 ITC, 9 BL2, 10 -OUTPUT (out), 11 +OUTPUT (out), 12 +VS (power), 13 LOG COM (out), 14 LOG OUT (out), 15 RG2, 16 RG0, 17 RG1, 18 CKT COM, 19 ATN OUT (out), 20 +INPUT (in)

## AD8302ARU
designator U?
LF-2.7 GHz RF/IF Gain and Phase Detector, 60ns Response Time, RU-14, 96 Tube; Product Description: Dual-Channel Gain and Phase Outputs; RF Frequency (MHz): 2700; Dynamic Range (dB): 60dB; Temp Stability (dB): 1dB; Voltage Supply (V): 2.7 to 5.5; Supply Current: 19mA; DatasheetVersion: Rev. A; PackageVersion: Aug-2002; PackageReference: RU-14; PackageDescription: 14-Lead Thin Shrink Small Outline Package [TSSOP]; Response Time (ns typ): 60ns; Code_JEDEC: MO-153AB-1; ComponentLink1Description: Manufacturer URL; ComponentLink1URL: www.analog.com; ComponentLink2Description: Datasheet; ComponentLink2URL: http://www.analog.com/static/imported-files/data_sheets/AD8302.pdf; ComponentLink3Description: Package Specification; ComponentLink3URL: http://www.analog.com/static/imported-files/packages/36057385283879153717235186773RU14.pdf
footprint ADI-RU-14_N (TSOP, 14-Leads, Body 5x4.4mm, Pitch 0.65mm, IPC Medium Density)
footprint ADI-RU-14_L (TSOP, 14-Leads, Body 5x4.4mm, Pitch 0.65mm, IPC High Density)
footprint ADI-RU-14_M (TSOP, 14-Leads, Body 5x4.4mm, Pitch 0.65mm, IPC Low Density)
pins: 1 COMM (power) "Device Common. Connect to low impedance ground.", 2 INPA (in) "High Input Impedance to Channel A. Must be ac-coupled.", 3 OFSA "A capacitor to ground at this pin sets the offset compensation filter corner and provides input decoupling.", 4 VPOS (power) "Voltage Supply (VS), 2.7 V to 5.5 V.", 5 OFSB "A capacitor to ground at this pin sets the offset compensation filter corner and provides input decoupling.", 6 INPB (in) "Input to Channel B. Same structure as INPA.", 7 COMM (power) "Device Common. Connect to low impedance ground.", 8 PFLT "Low Pass Filter Terminal for the Phase Output.", 9 VPHS (out) "Single-Ended Output Proportional to the Phase Difference between INPA and INPB.", 10 PSET (in) "Feedback Pin for Scaling of VPHS Output Voltage in Measurement Mode. Apply a setpoint voltage for controller mode.", 11 VREF (power) "Internally Generated Reference Voltage (1.8 V Nominal)", 12 MSET (in) "Feedback Pin for Scaling of VMAG Output Voltage Measurement Mode.Accepts a set point voltage in controller mode", 13 VMAG (out) "Single-Ended Output. Output voltage proportional to the decibel ratio of signals applied to INPA and INPB.", 14 MFLT "Low Pass Filter Terminal for the Magnitude Output"

## AD8302ARU-REEL7
designator U?
LF-2.7 GHz RF/IF Gain and Phase Detector, 60ns Response Time, RU-14, 1000 Reel; Product Description: Dual-Channel Gain and Phase Outputs; RF Frequency (MHz): 2700; Dynamic Range (dB): 60dB; Temp Stability (dB): 1dB; Voltage Supply (V): 2.7 to 5.5; Supply Current: 19mA; DatasheetVersion: Rev. A; PackageVersion: Aug-2002; PackageReference: RU-14; PackageDescription: 14-Lead Thin Shrink Small Outline Package [TSSOP]; Response Time (ns typ): 60ns; Code_JEDEC: MO-153AB-1; ComponentLink1Description: Manufacturer URL; ComponentLink1URL: www.analog.com; ComponentLink2Description: Datasheet; ComponentLink2URL: http://www.analog.com/static/imported-files/data_sheets/AD8302.pdf; ComponentLink3Description: Package Specification; ComponentLink3URL: http://www.analog.com/static/imported-files/packages/36057385283879153717235186773RU14.pdf
footprint ADI-RU-14_N (TSOP, 14-Leads, Body 5x4.4mm, Pitch 0.65mm, IPC Medium Density)
footprint ADI-RU-14_L (TSOP, 14-Leads, Body 5x4.4mm, Pitch 0.65mm, IPC High Density)
footprint ADI-RU-14_M (TSOP, 14-Leads, Body 5x4.4mm, Pitch 0.65mm, IPC Low Density)
pins: 1 COMM (power) "Device Common. Connect to low impedance ground.", 2 INPA (in) "High Input Impedance to Channel A. Must be ac-coupled.", 3 OFSA "A capacitor to ground at this pin sets the offset compensation filter corner and provides input decoupling.", 4 VPOS (power) "Voltage Supply (VS), 2.7 V to 5.5 V.", 5 OFSB "A capacitor to ground at this pin sets the offset compensation filter corner and provides input decoupling.", 6 INPB (in) "Input to Channel B. Same structure as INPA.", 7 COMM (power) "Device Common. Connect to low impedance ground.", 8 PFLT "Low Pass Filter Terminal for the Phase Output.", 9 VPHS (out) "Single-Ended Output Proportional to the Phase Difference between INPA and INPB.", 10 PSET (in) "Feedback Pin for Scaling of VPHS Output Voltage in Measurement Mode. Apply a setpoint voltage for controller mode.", 11 VREF (power) "Internally Generated Reference Voltage (1.8 V Nominal)", 12 MSET (in) "Feedback Pin for Scaling of VMAG Output Voltage Measurement Mode.Accepts a set point voltage in controller mode", 13 VMAG (out) "Single-Ended Output. Output voltage proportional to the decibel ratio of signals applied to INPA and INPB.", 14 MFLT "Low Pass Filter Terminal for the Magnitude Output"

## AD8302ARUZ
designator U?
LF-2.7 GHz RF/IF Gain and Phase Detector, 60ns Response Time, RU-14, Pb-Free, 96 Tube; Product Description: Dual-Channel Gain and Phase Outputs; RF Frequency (MHz): 2700; Dynamic Range (dB): 60dB; Temp Stability (dB): 1dB; Voltage Supply (V): 2.7 to 5.5; Supply Current: 19mA; DatasheetVersion: Rev. A; PackageVersion: Aug-2002; PackageReference: RU-14; PackageDescription: 14-Lead Thin Shrink Small Outline Package [TSSOP]; Response Time (ns typ): 60ns; Code_JEDEC: MO-153AB-1; ComponentLink1Description: Manufacturer URL; ComponentLink1URL: www.analog.com; ComponentLink2Description: Datasheet; ComponentLink2URL: http://www.analog.com/static/imported-files/data_sheets/AD8302.pdf; ComponentLink3Description: Package Specification; ComponentLink3URL: http://www.analog.com/static/imported-files/packages/36057385283879153717235186773RU14.pdf
footprint ADI-RU-14_N (TSOP, 14-Leads, Body 5x4.4mm, Pitch 0.65mm, IPC Medium Density)
footprint ADI-RU-14_L (TSOP, 14-Leads, Body 5x4.4mm, Pitch 0.65mm, IPC High Density)
footprint ADI-RU-14_M (TSOP, 14-Leads, Body 5x4.4mm, Pitch 0.65mm, IPC Low Density)
pins: 1 COMM (power) "Device Common. Connect to low impedance ground.", 2 INPA (in) "High Input Impedance to Channel A. Must be ac-coupled.", 3 OFSA "A capacitor to ground at this pin sets the offset compensation filter corner and provides input decoupling.", 4 VPOS (power) "Voltage Supply (VS), 2.7 V to 5.5 V.", 5 OFSB "A capacitor to ground at this pin sets the offset compensation filter corner and provides input decoupling.", 6 INPB (in) "Input to Channel B. Same structure as INPA.", 7 COMM (power) "Device Common. Connect to low impedance ground.", 8 PFLT "Low Pass Filter Terminal for the Phase Output.", 9 VPHS (out) "Single-Ended Output Proportional to the Phase Difference between INPA and INPB.", 10 PSET (in) "Feedback Pin for Scaling of VPHS Output Voltage in Measurement Mode. Apply a setpoint voltage for controller mode.", 11 VREF (power) "Internally Generated Reference Voltage (1.8 V Nominal)", 12 MSET (in) "Feedback Pin for Scaling of VMAG Output Voltage Measurement Mode.Accepts a set point voltage in controller mode", 13 VMAG (out) "Single-Ended Output. Output voltage proportional to the decibel ratio of signals applied to INPA and INPB.", 14 MFLT "Low Pass Filter Terminal for the Magnitude Output"

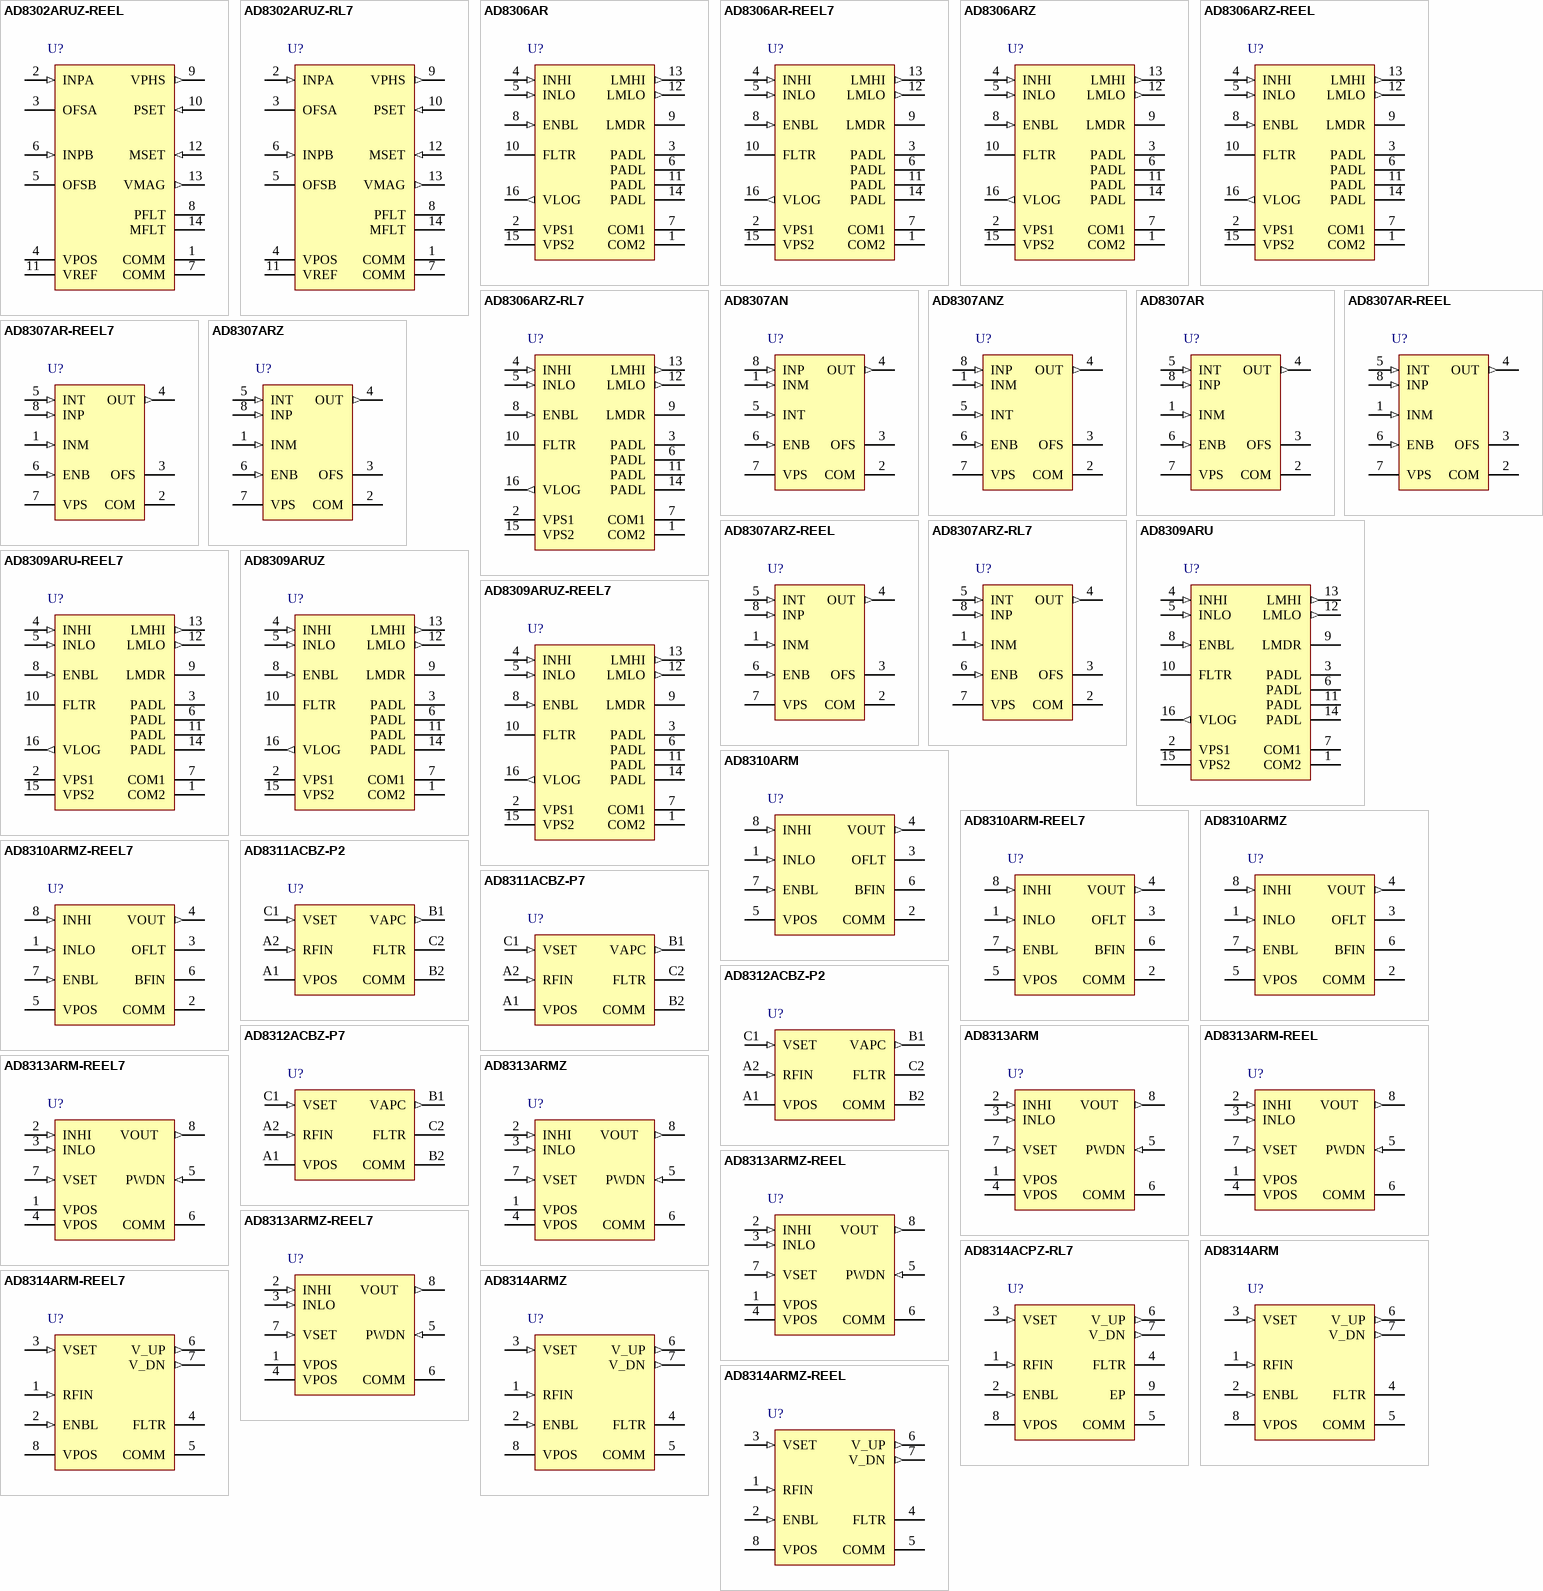
[diagram p1: symbols AD8302ARUZ-REEL to AD8314ARMZ-REEL]

## AD8302ARUZ-REEL
designator U?
LF-2.7 GHz RF/IF Gain and Phase Detector, 60ns Response Time, RU-14, Pb-Free, 2500 Reel; Product Description: Dual-Channel Gain and Phase Outputs; RF Frequency (MHz): 2700; Dynamic Range (dB): 60dB; Temp Stability (dB): 1dB; Voltage Supply (V): 2.7 to 5.5; Supply Current: 19mA; DatasheetVersion: Rev. A; PackageVersion: Aug-2002; PackageReference: RU-14; PackageDescription: 14-Lead Thin Shrink Small Outline Package [TSSOP]; Response Time (ns typ): 60ns; Code_JEDEC: MO-153AB-1; ComponentLink1Description: Manufacturer URL; ComponentLink1URL: www.analog.com; ComponentLink2Description: Datasheet; ComponentLink2URL: http://www.analog.com/static/imported-files/data_sheets/AD8302.pdf; ComponentLink3Description: Package Specification; ComponentLink3URL: http://www.analog.com/static/imported-files/packages/36057385283879153717235186773RU14.pdf
footprint ADI-RU-14_N (TSOP, 14-Leads, Body 5x4.4mm, Pitch 0.65mm, IPC Medium Density)
footprint ADI-RU-14_L (TSOP, 14-Leads, Body 5x4.4mm, Pitch 0.65mm, IPC High Density)
footprint ADI-RU-14_M (TSOP, 14-Leads, Body 5x4.4mm, Pitch 0.65mm, IPC Low Density)
pins: 1 COMM (power) "Device Common. Connect to low impedance ground.", 2 INPA (in) "High Input Impedance to Channel A. Must be ac-coupled.", 3 OFSA "A capacitor to ground at this pin sets the offset compensation filter corner and provides input decoupling.", 4 VPOS (power) "Voltage Supply (VS), 2.7 V to 5.5 V.", 5 OFSB "A capacitor to ground at this pin sets the offset compensation filter corner and provides input decoupling.", 6 INPB (in) "Input to Channel B. Same structure as INPA.", 7 COMM (power) "Device Common. Connect to low impedance ground.", 8 PFLT "Low Pass Filter Terminal for the Phase Output.", 9 VPHS (out) "Single-Ended Output Proportional to the Phase Difference between INPA and INPB.", 10 PSET (in) "Feedback Pin for Scaling of VPHS Output Voltage in Measurement Mode. Apply a setpoint voltage for controller mode.", 11 VREF (power) "Internally Generated Reference Voltage (1.8 V Nominal)", 12 MSET (in) "Feedback Pin for Scaling of VMAG Output Voltage Measurement Mode.Accepts a set point voltage in controller mode", 13 VMAG (out) "Single-Ended Output. Output voltage proportional to the decibel ratio of signals applied to INPA and INPB.", 14 MFLT "Low Pass Filter Terminal for the Magnitude Output"

## AD8302ARUZ-RL7
designator U?
LF-2.7 GHz RF/IF Gain and Phase Detector, 60ns Response Time, RU-14, Pb-Free, 1000 Reel; Product Description: Dual-Channel Gain and Phase Outputs; RF Frequency (MHz): 2700; Dynamic Range (dB): 60dB; Temp Stability (dB): 1dB; Voltage Supply (V): 2.7 to 5.5; Supply Current: 19mA; DatasheetVersion: Rev. A; PackageVersion: Aug-2002; PackageReference: RU-14; PackageDescription: 14-Lead Thin Shrink Small Outline Package [TSSOP]; Response Time (ns typ): 60ns; Code_JEDEC: MO-153AB-1; ComponentLink1Description: Manufacturer URL; ComponentLink1URL: www.analog.com; ComponentLink2Description: Datasheet; ComponentLink2URL: http://www.analog.com/static/imported-files/data_sheets/AD8302.pdf; ComponentLink3Description: Package Specification; ComponentLink3URL: http://www.analog.com/static/imported-files/packages/36057385283879153717235186773RU14.pdf
footprint ADI-RU-14_N (TSOP, 14-Leads, Body 5x4.4mm, Pitch 0.65mm, IPC Medium Density)
footprint ADI-RU-14_L (TSOP, 14-Leads, Body 5x4.4mm, Pitch 0.65mm, IPC High Density)
footprint ADI-RU-14_M (TSOP, 14-Leads, Body 5x4.4mm, Pitch 0.65mm, IPC Low Density)
pins: 1 COMM (power) "Device Common. Connect to low impedance ground.", 2 INPA (in) "High Input Impedance to Channel A. Must be ac-coupled.", 3 OFSA "A capacitor to ground at this pin sets the offset compensation filter corner and provides input decoupling.", 4 VPOS (power) "Voltage Supply (VS), 2.7 V to 5.5 V.", 5 OFSB "A capacitor to ground at this pin sets the offset compensation filter corner and provides input decoupling.", 6 INPB (in) "Input to Channel B. Same structure as INPA.", 7 COMM (power) "Device Common. Connect to low impedance ground.", 8 PFLT "Low Pass Filter Terminal for the Phase Output.", 9 VPHS (out) "Single-Ended Output Proportional to the Phase Difference between INPA and INPB.", 10 PSET (in) "Feedback Pin for Scaling of VPHS Output Voltage in Measurement Mode. Apply a setpoint voltage for controller mode.", 11 VREF (power) "Internally Generated Reference Voltage (1.8 V Nominal)", 12 MSET (in) "Feedback Pin for Scaling of VMAG Output Voltage Measurement Mode.Accepts a set point voltage in controller mode", 13 VMAG (out) "Single-Ended Output. Output voltage proportional to the decibel ratio of signals applied to INPA and INPB.", 14 MFLT "Low Pass Filter Terminal for the Magnitude Output"

## AD8306AR
designator U?
5 MHz-400 MHz 100 dB High Precision Limiting-Logarithmic Amplifier, 73ns Response Time, R-16, 48 Tube; Product Description: Military Specified Part Available; RF Frequency (MHz): 5 to 400; Dynamic Range (dB): 100dB; Temp Stability (dB): 1dB; Voltage Supply (V): 2.7 to 5.5; Supply Current: 16mA; DatasheetVersion: Rev.A; PackageVersion: 060606-A; PackageReference: R-16; PackageDescription: 16-Lead Standard Small Outline Package [SOIC_N]; Response Time (ns typ): 73ns; Code_JEDEC: MS-012-AC; ComponentLink1Description: Manufacturer URL; ComponentLink1URL: www.analog.com; ComponentLink2Description: Datasheet; ComponentLink2URL: http://www.analog.com/static/imported-files/data_sheets/AD8306.pdf; ComponentLink3Description: Package Specification; ComponentLink3URL: http://www.analog.com/static/imported-files/packages/PKG_PDF/SOIC_Narrow%20(R)/R_16.pdf
footprint ADI-R-16_N (SOIC, 16-Leads, Body 9.9x3.9mm, Pitch 1.27mm, IPC Medium Density)
footprint ADI-R-16_L (SOIC, 16-Leads, Body 9.9x3.9mm, Pitch 1.27mm, IPC High Density)
footprint ADI-R-16_M (SOIC, 16-Leads, Body 9.9x3.9mm, Pitch 1.27mm, IPC Low Density)
pins: 1 COM2 (power) "Special Common Pin for RSSI Output.", 2 VPS1 (power) "Supply Pin for First Five Amplifier Stages and the Main Biasing System.", 3 PADL (power) "Four Tie-Downs to the Paddle on which the IC Is Mounted; Grounded.", 4 INHI (in) "Signal Input, HI or Plus Polarity.", 5 INLO (in) "Signal Input, LO or Minus Polarity.", 6 PADL (power) "Four Tie-Downs to the Paddle on which the IC Is Mounted; Grounded.", 7 COM1 (power) "Main Common Connection.", 8 ENBL (in) "Chip Enable; Active When HI.", 9 LMDR "Limiter Drive Programming Pin.10 FLTR", 10 FLTR "RSSI Bandwidth-Reduction Pin.", 11 PADL (power) "Four Tie-Downs to the Paddle on which the IC Is Mounted; Grounded.", 12 LMLO (out) "Limiter Output, LO or Minus Polarity.", 13 LMHI (out) "Limiter Output, HI or Plus Polarity.", 14 PADL (power) "Four Tie-Downs to the Paddle on which the IC Is Mounted; Grounded.", 15 VPS2 (power) "Supply Pin for Sixth Gain Stage, Limiterand RSSI Output Stage Load Current.", 16 VLOG (out) "Logarithmic (RSSI) Output."